# Altium footprint library Alt_git.PcbLib: 81 footprints (part 4 of 6)
Each footprint in its own frame and in the unit in brackets; x right, y up, seen from the top. Pads: shape width x height; smd on the part's side, far side on the other; paste and mask are expansions set on the pad; w line width, h text height; cw(c..) or ccw(c..) is an arc to the next point about the centre after c.
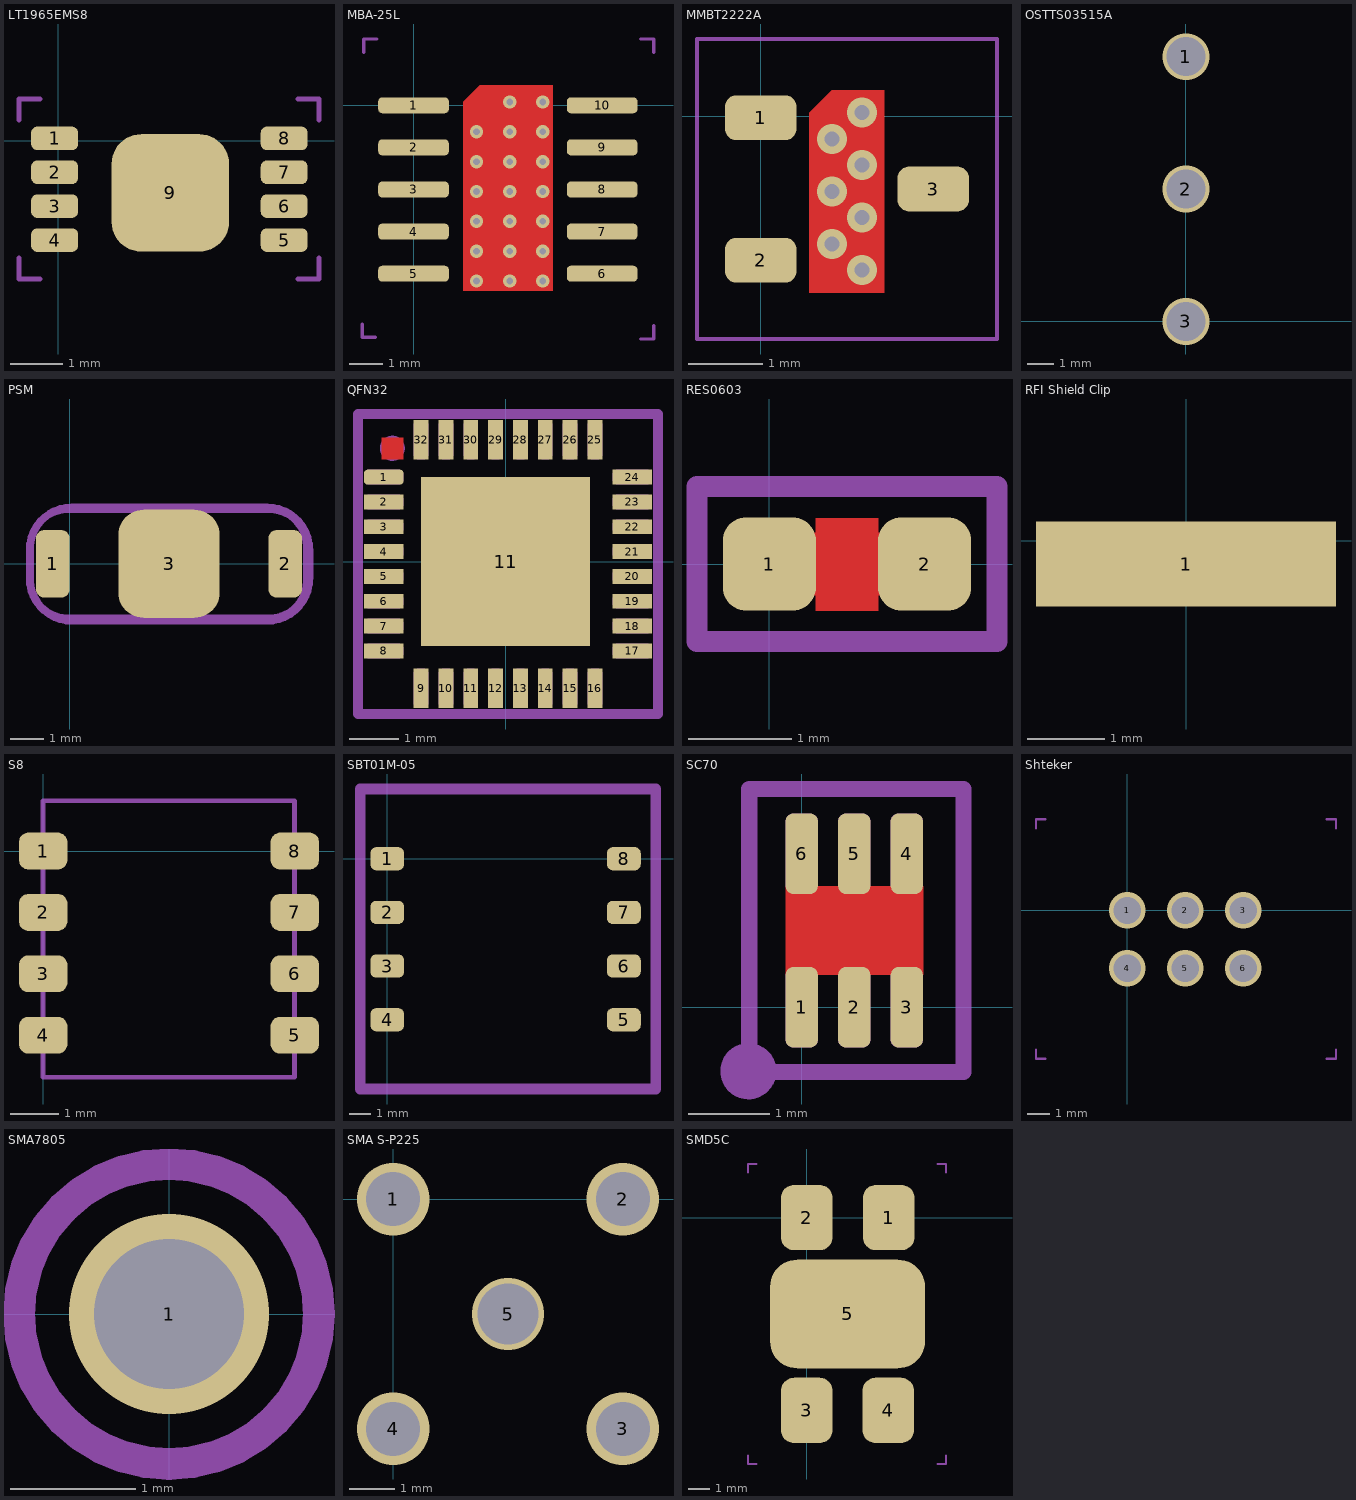
[diagram p3: the footprints below, top view; thin cyan lines are the x and y axes]

## LT1965EMS8 [mm]
pads (9):
  rrect50% 0.9x0.45 smd: 1(-0.067,0.046) 2(-0.067,-0.604) 3(-0.067,-1.254) 4(-0.067,-1.904) 5(4.333,-1.904) 6(4.333,-1.254) 7(4.333,-0.604) 8(4.333,0.046)
  rrect50% 2.25x2.25 smd: 9(2.15,-1)
Cap:
  lines w0.1: -0.75,-2.25 -0.75,-2.65 -0.35,-2.65 ; -0.75,0.4 -0.75,0.8 -0.35,0.8 ; 4.6,-2.65 5,-2.65 5,-2.25 ; 4.6,0.8 5,0.8 5,0.4
3D body "Корпус MSOP8.stp": height 1.25, standoff -0.01, extent -0.5,-2.45 4.802,0.55

## MBA-25L [mm]
pads (10):
  rrect50% 2.13x0.48 smd paste+0: 1(0,0) 2(0,-1.27) 3(0,-2.54) 4(0,-3.81) 5(0,-5.08) 6(5.69,-5.08) 7(5.69,-3.81) 8(5.69,-2.54) 9(5.69,-1.27) 10(5.69,0)
via 3.9,0.1 diameter 0.4 hole 0.2
via 2.9,0.1 diameter 0.4 hole 0.2
via 1.9,-4.4 diameter 0.4 hole 0.2
via 1.9,-3.5 diameter 0.4 hole 0.2
via 1.9,-2.6 diameter 0.4 hole 0.2
via 1.9,-0.8 diameter 0.4 hole 0.2
via 1.9,-1.7 diameter 0.4 hole 0.2
via 2.9,-4.4 diameter 0.4 hole 0.2
via 2.9,-3.5 diameter 0.4 hole 0.2
via 2.9,-2.6 diameter 0.4 hole 0.2
via 2.9,-0.8 diameter 0.4 hole 0.2
via 2.9,-1.7 diameter 0.4 hole 0.2
via 3.9,-1.7 diameter 0.4 hole 0.2
via 3.9,-0.8 diameter 0.4 hole 0.2
via 3.9,-2.6 diameter 0.4 hole 0.2
via 3.9,-3.5 diameter 0.4 hole 0.2
via 3.9,-4.4 diameter 0.4 hole 0.2
via 1.9,-5.3 diameter 0.4 hole 0.2
via 2.9,-5.3 diameter 0.4 hole 0.2
via 3.9,-5.3 diameter 0.4 hole 0.2
Top Layer:
  region: 4.2,-5.6 4.2,0.6 2,0.6 1.5,0.1 1.5,-5.6
Cap:
  lines w0.1: -1.55,-6.6 -1.55,-7 -1.15,-7 ; -1.5,1.6 -1.5,2 -1.1,2 ; 6.85,-7.05 7.25,-7.05 7.25,-6.65 ; 6.85,2 7.25,2 7.25,1.6
3D body: height 1.27, standoff 0, extent -1.167,-6.55 6.857,1.55

## MMBT2222A [mm]
pads (3):
  rrect50% 0.95x0.6 smd: 1(0.001,-0.017) 2(0.001,-1.917) 3(2.301,-0.967)
via 1.35,-2.05 diameter 0.4 hole 0.2
via 0.95,-1.7 diameter 0.4 hole 0.2
via 1.35,-1.35 diameter 0.4 hole 0.2
via 0.95,-1 diameter 0.4 hole 0.2
via 1.35,-0.65 diameter 0.4 hole 0.2
via 0.95,-0.3 diameter 0.4 hole 0.2
via 1.35,0.05 diameter 0.4 hole 0.2
Top Layer:
  region: 1.65,-2.35 0.65,-2.35 0.65,0.05 0.95,0.35 1.65,0.35
BrdComp:
  lines w0.05: -0.849,-2.967 3.151,-2.967 3.151,1.033 -0.849,1.033 -0.849,-2.967
3D body "Корпус SOT23.stp": height 1.15, standoff -0.04, extent 0.1,-2.5 2.474,0.5

## OSTTS03515A [mm]
pads (3):
  round 1 hole 0.6: 1(0,10.16) 2(0,5.08) 3(0,0)
via 0,0 diameter 1.8 hole 1.5
via 0,5.08 diameter 1.8 hole 1.5
via 0,10.16 diameter 1.8 hole 1.5
Top Paste:
  circle w0.15: c0.005,-0.001 r0.675
  circle w0.15: c0.005,5.079 r0.675
  circle w0.15: c-0.003,5.085 r0.675
  circle w0.15: c-0.003,10.165 r0.675
Top Solder:
  circle w0.15: c0.001,-0.001 r0.675
  circle w0.15: c0.001,5.079 r0.675
  circle w0.15: c0,5.08 r0.675
  circle w0.15: c0,10.16 r0.675
3D body "OSTTS03515A.stp": height 13.64, standoff -3, extent -2,-3.56 28,13.68

## PCBComponent_1 [mm]

## PSM [mm]
pads (3):
  rrect50% 1x2 smd paste+0 mask+0: 1(-0.5,0) 2(6.37,0)
  rrect50% 3x3.2 smd paste+0 mask+0: 3(2.935,0)
RES:
  lines w0.2: -0.05,-1.6 cw(c-0.05,-0.5) -1.15,-0.5 -1.15,0.5 cw(c-0.05,0.5) -0.05,1.6 ; 0,-1.6 5.9,-1.6 ccw(c5.9,-0.5) 7,-0.5 7,0.5 ccw(c5.9,0.5) 5.9,1.6 0,1.6
BrdComp:
  lines w0.2: 0.07,1.685 ccw(c0.07,0.415) -1.2,0.415 -1.2,-0.43 ccw(c0.07,-0.43) 0.07,-1.7 5.83,-1.7 ccw(c5.83,-0.43) 7.1,-0.43 7.1,0.415 ccw(c5.83,0.415) 5.83,1.685 ; 0.07,1.69 5.83,1.69
3D body "PSM1-402Z-10T0.stp": height 3, standoff 0, extent -0.61,-1.51 6.63,1.49

## QFN32 [mm]
pads (33):
  rrect50% 0.8x0.3 smd paste+0: 1(-2.45,1.7)
  rect 0.8x0.3 smd paste+0: 2(-2.45,1.2) 3(-2.45,0.7) 4(-2.45,0.2) 5(-2.45,-0.3) 6(-2.45,-0.8) 7(-2.45,-1.3) 8(-2.45,-1.8) 17(2.55,-1.8) 18(2.55,-1.3) 19(2.55,-0.8) 20(2.55,-0.3) 21(2.55,0.2) 22(2.55,0.7) 23(2.55,1.2) 24(2.55,1.7)
  rect 0.3x0.8 smd paste+0: 9(-1.7,-2.55) 10(-1.2,-2.55) 11(-0.7,-2.55) 12(-0.2,-2.55) 13(0.3,-2.55) 14(0.8,-2.55) 15(1.3,-2.55) 16(1.8,-2.55) 25(1.8,2.45) 26(1.3,2.45) 27(0.8,2.45) 28(0.3,2.45) 29(-0.2,2.45) 30(-0.7,2.45) 31(-1.2,2.45) 32(-1.7,2.45)
  rect 3.4x3.4 smd paste+0: 11(0,0)
Top Layer:
  rectangle: -2.5,2.05 -2.05,2.5
MSH:
  drawing of 165 lines, arcs and shapes, not listed
3D body "CP-24-10.stp": height 1, standoff 0, extent -2.64,-2.73 2.76,2.67

## RES0603 [mm]
pads (2):
  rrect50% 0.9x0.9 smd paste+0: 1(0,0) 2(1.5,0)
Top Layer:
  pour cut-out: 1.25,0.3 0.25,0.3 0.25,-0.3 1.25,-0.3
  pour cut-out: 0.45,0.44 0.45,-0.45 1.05,-0.45 1.05,0.44
RES:
  lines w0.2: -0.7,-0.75 2.2,-0.75 2.2,0.75 -0.7,0.75 -0.7,-0.75
3D body "Корпус SMD0603.stp": height 0.45, standoff 0, extent -0.05,-0.47 1.55,0.43

## RFI Shield Clip [mm]
pads (1):
  rect 3.9x1.1 smd mask+0: 1(0,-0.3)
3D body "s0941-46.stp": height 1, standoff 0, extent -1.95,-0.85 1.95,0.25

## S8 [mil]
pads (8):
  rrect50% 39.37x30 smd: 1(0,0) 2(0,-50) 3(0,-100) 4(0,-150) 5(205,-150) 6(205,-100) 7(205,-50) 8(205,0)
Cap:
  lines w3.94: 0,-184.25 204.72,-184.25 204.72,40.94 0,40.94 0,-184.25
3D body "S8.stp": height 52.99, standoff 0, extent 23.86,-173.23 180.87,23.62

## SBT01M-05 [mm]
pads (8):
  rrect50% 1.6x1.1 smd mask+0: 1(0,0) 2(0,-2.54) 3(0,-5.08) 4(0,-7.62) 5(11.2,-7.62) 6(11.2,-5.08) 7(11.2,-2.54) 8(11.2,0)
Top Layer:
  lines w0.6: 0,0 0,0
Connect:
  lines w0.5: -1.27,-10.9 -1.27,3.3 12.7,3.3 12.7,-10.9 -1.27,-10.9
3D body "SBT01M-05.stp": height 6.1, standoff -0.68, extent 0.036,-10.2 11.364,2.664

## SC70 [mm]
pads (6):
  rrect50% 0.4x1 smd paste+0 mask+0: 1(0,0) 2(0.65,0) 3(1.3,0) 4(1.3,1.9) 5(0.65,1.9) 6(0,1.9)
Top Layer:
  pour cut-out: 1.5,1.5 -0.2,1.5 -0.2,0.4 1.5,0.4
MSH:
  circle w0.254: c-0.66,-0.79 r0.22
  lines w0.2: -0.65,-0.8 2,-0.8 2,2.7 -0.65,2.7 -0.65,-0.8 ; -0.1,-0.4 0.1,-0.4 0.1,0.4 -0.1,0.4 -0.1,-0.4 ; -0.1,1.5 0.1,1.5 0.1,2.3 -0.1,2.3 -0.1,1.5 ; 0.55,-0.4 0.75,-0.4 0.75,0.4 0.55,0.4 0.55,-0.4 ; 0.55,1.5 0.75,1.5 0.75,2.3 0.55,2.3 0.55,1.5 ; 1.2,-0.4 1.4,-0.4 1.4,0.4 1.2,0.4 1.2,-0.4 ; 1.2,1.5 1.2,2.3 1.4,2.3 1.4,1.5 1.2,1.5
3D body "SC70.stp": height 1, standoff 0, extent -0.11,-0.05 1.39,1.95

## Shteker [mm]
pads (6):
  rect 0.5x0.5 smd paste+0: 1(0,0) 2(2.54,0) 3(5.08,0) 4(0,-2.54) 5(2.54,-2.54) 6(5.08,-2.54)
via 5.08,-2.54 diameter 1.6 hole 1.2
via 2.54,-2.54 diameter 1.6 hole 1.2
via 0,-2.54 diameter 1.6 hole 1.2
via 5.08,0 diameter 1.6 hole 1.2
via 2.54,0 diameter 1.6 hole 1.2
via 0,0 diameter 1.6 hole 1.2
Cap:
  lines w0.1: -4,-6.1 -4,-6.5 -3.6,-6.5 ; -4,3.6 -4,4 -3.6,4 ; 8.75,-6.5 9.15,-6.5 9.15,-6.1 ; 8.75,4 9.15,4 9.15,3.6
3D body "Штекер.stp": height 9, standoff -1, extent -3.4,-5.9 8.44,3.4

## SMA7805 [mm]
pads (1):
  rect 0.5x0.5 on Mech1 paste+0: 1(0,0)
via 0,0 diameter 1.6 hole 1.2
Cap:
  circle w0.254: c0,0 r1.2
3D body "Гнездо SMA7805.stp": height 8, standoff -1, extent -8.1,-3.8 2.9,3.2

## SMA S-P225 [mm]
pads (5):
  round 1.55 smd paste+0: 1(0,0) 2(5.08,0) 3(5.08,-5.08) 4(0,-5.08)
  round 0.76 smd paste+0: 5(2.54,-2.54)
via 2.54,-2.54 diameter 1.6 hole 1.35
via 0,-5.08 diameter 1.6 hole 1.2
via 5.08,-5.08 diameter 1.6 hole 1.2
via 5.08,0 diameter 1.6 hole 1.2
via 0,0 diameter 1.6 hole 1.2
3D body "Корпус SMA S-P225.stp": height 5.3, standoff -8.5, extent -0.95,-14.15 6.05,0.95

## SMD5C [mm]
pads (5):
  rrect50% 2.41x3.05 smd paste+0: 1(3.82,0) 2(0,0) 3(0,-9) 4(3.8,-9)
  rrect50% 7.23x5.08 smd paste+0: 5(1.9,-4.5)
Cap:
  lines w0.1: -2.75,-11.1 -2.75,-11.5 -2.35,-11.5 ; -2.75,2.1 -2.75,2.5 -2.35,2.5 ; 6.1,-11.5 6.5,-11.5 6.5,-11.1 ; 6.1,2.5 6.5,2.5 6.5,2.1
3D body "Корпус SMD5C.stp": height 1, standoff 0, extent -1.8,-10.5 5.5,1.5